# EAGLE library part MICROSD_CD (library bt_electromech)
MicroSD Card Socket with Card Detect
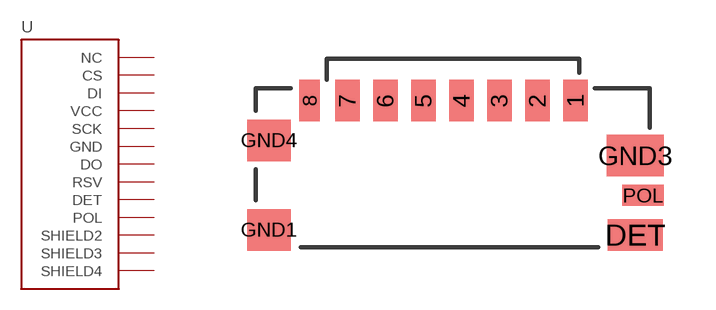
[diagram p4: symbol with the pads of USD_SMALL; footprint USD_SMALL]

Designator prefix U

## MICROSD_CD  [USD_SMALL]
1  NC
2  CS
3  DI
4  VCC
5  SCK
6  GND
7  DO
8  RSV
DET  DET
GND1  SHIELD2
GND3  SHIELD3
GND4  SHIELD4
POL  POL

## Footprint USD_SMALL (pad centres in mm)
Compact MicroSD Card Socket
smd 0.7 x 1.2: 1 3.55,-1.21; 2 2.45,-1.21; 3 1.35,-1.21; 4 0.25,-1.21; 5 -0.85,-1.21; 6 -1.95,-1.21; 7 -3.05,-1.21
smd 0.6 x 1.2: 8 -4.15,-1.21
smd 1.6 x 0.9: DET 5.275,-5.1
smd 1.25 x 1.2: GND1 -5.325,-4.95; GND4 -5.325,-2.36
smd 1.65 x 1.2: GND3 5.275,-2.8
smd 1.2 x 0.6: POL 5.5,-3.95